# Altium schematic symbol library 1N4004.SchLib: 1 symbol
Pins are listed as number, name and electrical type; pins without a type are passive.

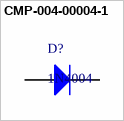
[diagram p0: symbol CMP-004-00004-1]

## CMP-004-00004-1
designator D?, comment 1N4004
General Purpose Rectifier, 400 V, 1 A, -55 to 175 degC, 2-Pin DO-204AL (DO-41), RoHS, Tape and Reel; Manufacturer: Fairchild Semiconductor; Max Surge Current: 30A; Package Version: Rev. 2, 09/2008; Peak Reverse Current: 50A; Forward Voltage: 1.1V; Forward Current: 1A; Manufacturer URL: https://www.fairchildsemi.com/; Mounting Technology: TH; Pins: 2; Max Operating Temperature: 175°C; Packaging: TapeandReel; RoHS Compliant: True; Min Operating Temperature: -55°C; Package URL: http://www.fairchildsemi.com/dwg/DO/DO41A.pdf; Datasheet Version: Rev. 1.1.0, 11/2014; Package Description: 2-Pin Axial Lead, Dia 2.375 mm, Body Length 4.63 mm; Diameter: 2.72mm; Case/Package: DO-41-2; Package Reference: DO-41-2; Package Quantity: 5000; Datasheet URL: https://www.fairchildsemi.com/datasheets/1N/1N4004.pdf
footprint FAIR-DO-41-2 (THD, 2-Leads, Body 5.2x2.72mm, Pin Spacing 7.8mm)
pins: 1 A, 2 K